# EAGLE library part SIMHOLDER-6PIN (library Connectors)
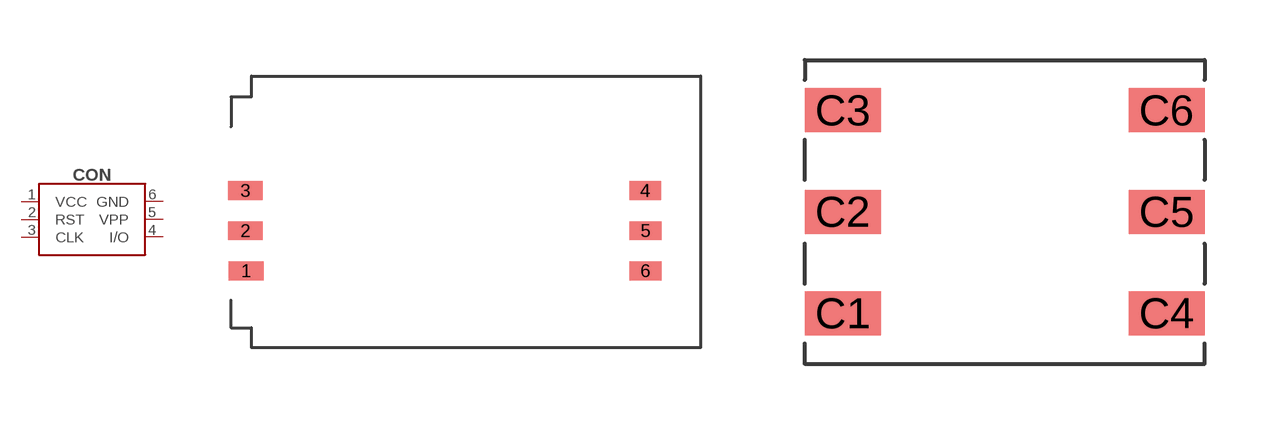
[diagram p15: symbol with the pads of SIM_HOLDER_LOCK; footprints SIM_HOLDER_LOCK, XKSIM-0605]

Designator prefix CON

## SIMHOLDER-6PIN-HINGED (DIGIKEY#: 609-1401-1-ND; MANF: FCI; MANF#: 7111S2015X02LF)  [SIM_HOLDER_LOCK]
1  VCC
2  RST
3  CLK
4  I/O
5  VPP
6  GND

## SIMHOLDER-6PIN-SIMBLOCK (LCSC#: C388791; MANF: XKB Connectivity; MANF#: XKSIM-0605)  [XKSIM-0605]
C1  VCC
C2  RST
C3  CLK
C4  I/O
C5  GND
C6  VPP

## SIMHOLDER-6PIN-SIMBLOCK-PADS  [XKSIM-0605-PADS]
Pads as for XKSIM-0605

## Footprint SIM_HOLDER_LOCK (pad centres in mm)
smd 2.2 x 1.2: 1 -13.9,-3.73; 2 -13.94,-1.19; 3 -13.94,1.35
smd 2 x 1.2: 4 11.35,1.35; 5 11.37,-1.19; 6 11.37,-3.73

## Footprint XKSIM-0605 (pad centres in mm)
Datasheet <https://datasheet.lcsc.com/lcsc/2110151730_XKB-Connectivity-XKSIM-0605_C388791.pdf>
smd 1.9 x 1.1: C1 -4.05,-2.54; C2 -4.05,0; C3 -4.05,2.54; C4 4.05,-2.54; C5 4.05,0; C6 4.05,2.54

## Footprint XKSIM-0605-PADS (pad centres in mm)
Datasheet <https://datasheet.lcsc.com/lcsc/2110151730_XKB-Connectivity-XKSIM-0605_C388791.pdf>
smd 4 x 2: C1 -3.8,-2.54; C2 -3.8,0; C3 -3.8,2.54; C4 3.8,-2.54; C5 3.8,0; C6 3.8,2.54